# EAGLE library part MICRO-FIT_3.0_7POS_ (library Schuyler)
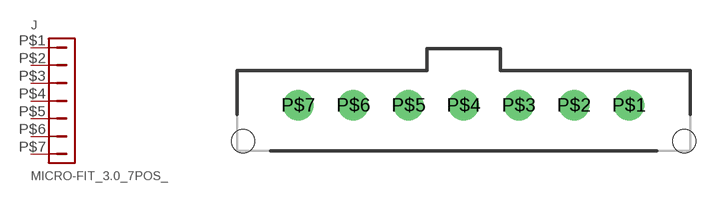
[diagram p4: symbol with the pads of MICRO-FIT_3.0_7POS_VERT_THROUGH; footprint MICRO-FIT_3.0_7POS_VERT_THROUGH]

Designator prefix J

## MICRO-FIT_3.0_7POS_VERT_THRU (MANPARTNUMBER: 0436500715; MANUFACTURER: Molex Inc; PARTNUMBER: WM2471-ND; SUPPLIER: DIGIKEY; VERIFIED: TRUE)  [MICRO-FIT_3.0_7POS_VERT_THROUGH]
P$1  P$1  pas
P$2  P$2  pas
P$3  P$3  pas
P$4  P$4  pas
P$5  P$5  pas
P$6  P$6  pas
P$7  P$7  pas

## Footprint MICRO-FIT_3.0_7POS_VERT_THROUGH (pad centres in mm)
drill 1.1: P$1 9,0; P$2 6,0; P$3 3,0; P$4 0,0; P$5 -3,0; P$6 -6,0; P$7 -9,0
hole 1.27 at 12,-1.96
hole 1.27 at -12,-1.96